# Altium footprint library germanium.PcbLib: 1 footprints
Each footprint in its own frame and in the unit in brackets; x right, y up, seen from the top. Pads: shape width x height; smd on the part's side, far side on the other; paste and mask are expansions set on the pad; w line width, h text height; cw(c..) or ccw(c..) is an arc to the next point about the centre after c.
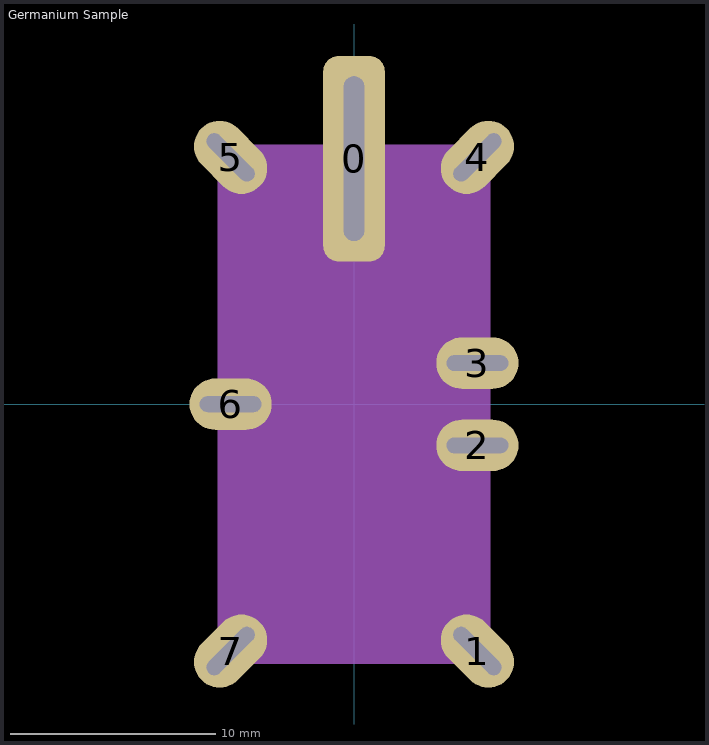
[diagram p0: the footprint, top view; thin cyan lines are the x and y axes]

## Germanium Sample [mm] "Germanium sample footprint"
pads (8):
  rrect50% 3x10 hole 1 slot 8 at 90 deg: 0(0,11.938)
  oval 2.5x4 hole 0.762 slot 3 at 135 deg rot 45: 1(6,-12) 5(-6,12)
  oval 4x2.5 hole 0.762 slot 3 at 0 deg: 2(6,-2) 3(6,2) 6(-6,0)
  oval 2.5x4 hole 0.762 slot 3 at 45 deg rot 135: 4(6,12) 7(-6,-12)
Mechanical 1:
  pour cut-out: -6.5,-12.5 6.5,-12.5 6.5,12.5 -6.5,12.5
  lines w0.254: -6.5,-12.5 6.5,-12.5 6.5,12.5 -6.5,12.5 -6.5,-12.5
3D body: height 0, standoff -1, extent -3.381,-10.127 3.619,9.873